# Altium schematic symbol library 2020-01-08_20-21-54.SchLib: 2 symbols
Pins are listed as number, name and electrical type; pins without a type are passive.

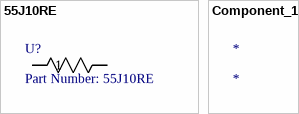
[diagram p0: symbols 55J10RE to Component_1]

## 55J10RE
designator U?, comment Part Number: 55J10RE
No Description Available; Vendor: Ohmite; Built_By: EMA_UL_Team; Manufacturer_Part_Number: 55J10RE; Copyright: Copyright (C) 2018 Accelerated Designs. All rights reserved; RefDes: RefDes; Type: DEV; Value: Value
footprint 55J
pins: 1, 2

## Component_1
designator *